# EAGLE library part CONN_HEADER_JTAG (library marionette)
JTAG header 2 x 5 pin surface mount, shrouded JTAG header, Mfg.: CNC Tech, Mfg. Part No.: 3220-10-0300-00, Digikey part No.: 1175-1629-ND
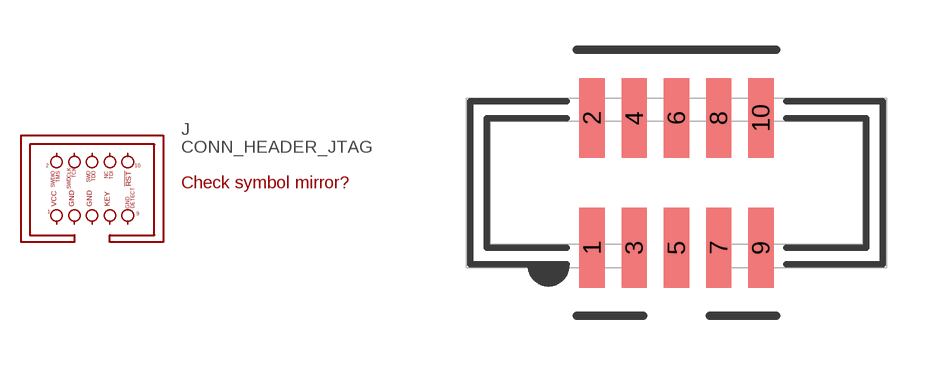
[diagram p15: symbol with the pads of CONN_HEADER_JTAG_SMD_10PIN_50MIL; footprint CONN_HEADER_JTAG_SMD_10PIN_50MIL]

Designator prefix J

## CONN_HEADER_JTAG  [CONN_HEADER_JTAG_SMD_10PIN_50MIL]
1  1  pas
2  2  pas
3  3  pas
4  4  pas
5  5  pas
6  6  pas
7  7  pas
8  8  pas
9  9  pas
10  10  pas

## Footprint CONN_HEADER_JTAG_SMD_10PIN_50MIL (pad centres in mm)
2 x 5 pin Surface Mount shrouded, 50mil pitch, 10 pin JTAG Header Mfg.: CNC Tech, Mfg. Part No.: 3220-10-0300-00, Digikey part No.: 1175-1629-ND
smd 0.76 x 2.4: 1 -2.54,-1.95; 2 -2.54,1.95; 3 -1.27,-1.95; 4 -1.27,1.95; 5 0,-1.95; 6 0,1.95; 7 1.27,-1.95; 8 1.27,1.95; 9 2.54,-1.95; 10 2.54,1.95